# Altium schematic symbol library DRV5032AJDMRR.SchLib: 1 symbol
Pins are listed as number, name and electrical type; pins without a type are passive.

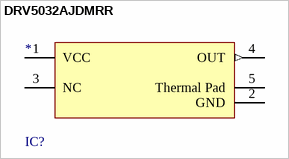
[diagram p0: symbol DRV5032AJDMRR]

## DRV5032AJDMRR
designator IC?
MAGNETIC SWITCH OMNIPOLAR 4X2SON; Max Output Current: 5mA; Max Supply Current: 3.5uA; Sensing Method: Hall Effect; Packaging: Cut Tape; Max Operating Temperature: 85°C; RoHS Compliant: Yes; Min Operating Temperature: -40°C
footprint FP-DMR0004A-MFG
pins: 1 VCC (power), 2 GND (power), 3 NC, 4 OUT (out), 5 Thermal Pad (power)